# Altium footprint library 2309413_1.PcbLib: 1 footprints
Each footprint in its own frame and in the unit in brackets; x right, y up, seen from the top. Pads: shape width x height; smd on the part's side, far side on the other; paste and mask are expansions set on the pad; w line width, h text height; cw(c..) or ccw(c..) is an arc to the next point about the centre after c.
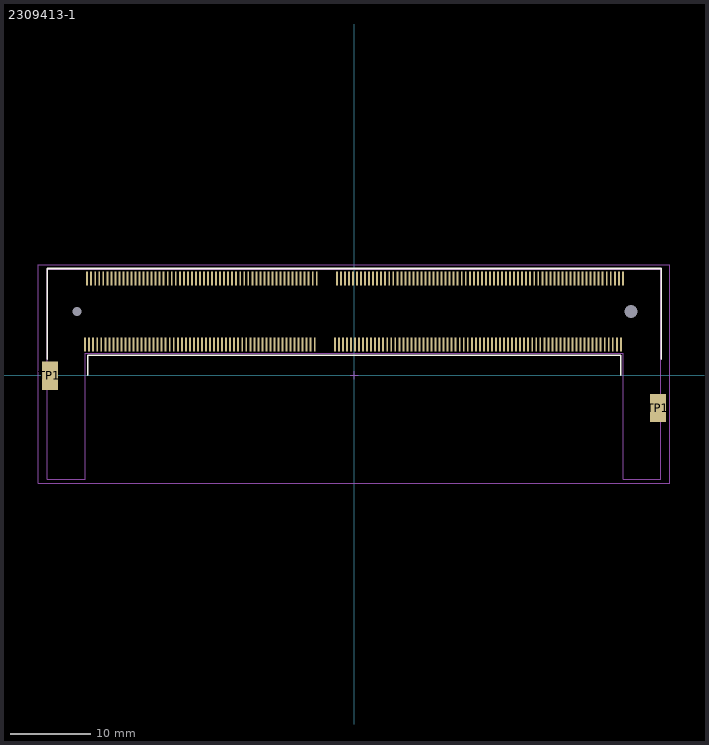
[diagram p0: the footprint, top view; thin cyan lines are the x and y axes]

## 2309413-1 [mm]
height 9.2
pads (264):
  rect 0.24x1.75 smd: 1(33.35,12.025) 2(33.1,3.825) 3(32.85,12.025) 4(32.6,3.825) 5(32.35,12.025) 6(32.1,3.825) 7(31.85,12.025) 8(31.6,3.825) 9(31.35,12.025) 10(31.1,3.825) 11(30.85,12.025) 12(30.6,3.825) 13(30.35,12.025) 14(30.1,3.825) 15(29.85,12.025) 16(29.6,3.825) 17(29.35,12.025) 18(29.1,3.825) 19(28.85,12.025) 20(28.6,3.825) 21(28.35,12.025) 22(28.1,3.825) 23(27.85,12.025) 24(27.6,3.825) 25(27.35,12.025) 26(27.1,3.825) 27(26.85,12.025) 28(26.6,3.825) 29(26.35,12.025) 30(26.1,3.825) 31(25.85,12.025) 32(25.6,3.825) 33(25.35,12.025) 34(25.1,3.825) 35(24.85,12.025) 36(24.6,3.825) 37(24.35,12.025) 38(24.1,3.825) 39(23.85,12.025) 40(23.6,3.825) 41(23.35,12.025) 42(23.1,3.825) 43(22.85,12.025) 44(22.6,3.825) 45(22.35,12.025) 46(22.1,3.825) 47(21.85,12.025) 48(21.6,3.825) 49(21.35,12.025) 50(21.1,3.825) 51(20.85,12.025) 52(20.6,3.825) 53(20.35,12.025) 54(20.1,3.825) 55(19.85,12.025) 56(19.6,3.825) 57(19.35,12.025) 58(19.1,3.825) 59(18.85,12.025) 60(18.6,3.825) 61(18.35,12.025) 62(18.1,3.825) 63(17.85,12.025) 64(17.6,3.825) 65(17.35,12.025) 66(17.1,3.825) 67(16.85,12.025) 68(16.6,3.825) 69(16.35,12.025) 70(16.1,3.825) 71(15.85,12.025) 72(15.6,3.825) 73(15.35,12.025) 74(15.1,3.825) 75(14.85,12.025) 76(14.6,3.825) 77(14.35,12.025) 78(14.1,3.825) 79(13.85,12.025) 80(13.6,3.825) 81(13.35,12.025) 82(13.1,3.825) 83(12.85,12.025) 84(12.6,3.825) 85(12.35,12.025) 86(12.1,3.825) 87(11.85,12.025) 88(11.6,3.825) 89(11.35,12.025) 90(11.1,3.825) 91(10.85,12.025) 92(10.6,3.825) 93(10.35,12.025) 94(10.1,3.825) 95(9.85,12.025) 96(9.6,3.825) 97(9.35,12.025) 98(9.1,3.825) 99(8.85,12.025) 100(8.6,3.825) 101(8.35,12.025) 102(8.1,3.825) 103(7.85,12.025) 104(7.6,3.825) 105(7.35,12.025) 106(7.1,3.825) 107(6.85,12.025) 108(6.6,3.825) 109(6.35,12.025) 110(6.1,3.825) 111(5.85,12.025) 112(5.6,3.825) 113(5.35,12.025) 114(5.1,3.825) 115(4.85,12.025) 116(4.6,3.825) 117(4.35,12.025) 118(4.1,3.825) 119(3.85,12.025) 120(3.6,3.825) 121(3.35,12.025) 122(3.1,3.825) 123(2.85,12.025) 124(2.6,3.825) 125(2.35,12.025) 126(2.1,3.825) 127(1.85,12.025) 128(1.6,3.825) 129(1.35,12.025) 130(1.1,3.825) 131(0.85,12.025) 132(0.6,3.825) 133(0.35,12.025) 134(0.1,3.825) 135(-0.15,12.025) 136(-0.4,3.825) 137(-0.65,12.025) 138(-0.9,3.825) 139(-1.15,12.025) 140(-1.4,3.825) 141(-1.65,12.025) 142(-1.9,3.825) 143(-2.15,12.025) 144(-2.4,3.825) 145(-4.65,12.025) 146(-4.9,3.825) 147(-5.15,12.025) 148(-5.4,3.825) 149(-5.65,12.025) 150(-5.9,3.825) 151(-6.15,12.025) 152(-6.4,3.825) 153(-6.65,12.025) 154(-6.9,3.825) 155(-7.15,12.025) 156(-7.4,3.825) 157(-7.65,12.025) 158(-7.9,3.825) 159(-8.15,12.025) 160(-8.4,3.825) 161(-8.65,12.025) 162(-8.9,3.825) 163(-9.15,12.025) 164(-9.4,3.825) 165(-9.65,12.025) 166(-9.9,3.825) 167(-10.15,12.025) 168(-10.4,3.825) 169(-10.65,12.025) 170(-10.9,3.825) 171(-11.15,12.025) 172(-11.4,3.825) 173(-11.65,12.025) 174(-11.9,3.825) 175(-12.15,12.025) 176(-12.4,3.825) 177(-12.65,12.025) 178(-12.9,3.825) 179(-13.15,12.025) 180(-13.4,3.825) 181(-13.65,12.025) 182(-13.9,3.825) 183(-14.15,12.025) 184(-14.4,3.825) 185(-14.65,12.025) 186(-14.9,3.825) 187(-15.15,12.025) 188(-15.4,3.825) 189(-15.65,12.025) 190(-15.9,3.825) 191(-16.15,12.025) 192(-16.4,3.825) 193(-16.65,12.025) 194(-16.9,3.825) 195(-17.15,12.025) 196(-17.4,3.825) 197(-17.65,12.025) 198(-17.9,3.825) 199(-18.15,12.025) 200(-18.4,3.825) 201(-18.65,12.025) 202(-18.9,3.825) 203(-19.15,12.025) 204(-19.4,3.825) 205(-19.65,12.025) 206(-19.9,3.825) 207(-20.15,12.025) 208(-20.4,3.825) 209(-20.65,12.025) 210(-20.9,3.825) 211(-21.15,12.025) 212(-21.4,3.825) 213(-21.65,12.025) 214(-21.9,3.825) 215(-22.15,12.025) 216(-22.4,3.825) 217(-22.65,12.025) 218(-22.9,3.825) 219(-23.15,12.025) 220(-23.4,3.825) 221(-23.65,12.025) 222(-23.9,3.825) 223(-24.15,12.025) 224(-24.4,3.825) 225(-24.65,12.025) 226(-24.9,3.825) 227(-25.15,12.025) 228(-25.4,3.825) 229(-25.65,12.025) 230(-25.9,3.825) 231(-26.15,12.025) 232(-26.4,3.825) 233(-26.65,12.025) 234(-26.9,3.825) 235(-27.15,12.025) 236(-27.4,3.825) 237(-27.65,12.025) 238(-27.9,3.825) 239(-28.15,12.025) 240(-28.4,3.825) 241(-28.65,12.025) 242(-28.9,3.825) 243(-29.15,12.025) 244(-29.4,3.825) 245(-29.65,12.025) 246(-29.9,3.825) 247(-30.15,12.025) 248(-30.4,3.825) 249(-30.65,12.025) 250(-30.9,3.825) 251(-31.15,12.025) 252(-31.4,3.825) 253(-31.65,12.025) 254(-31.9,3.825) 255(-32.15,12.025) 256(-32.4,3.825) 257(-32.65,12.025) 258(-32.9,3.825) 259(-33.15,12.025) 260(-33.4,3.825)
  rect 2x3.5 smd: TP1(-37.775,-0.075) TP1(37.725,-4.075)
  round 0 hole 1.1: ""(-34.425,7.925)
  round 0 hole 1.6: ""(34.375,7.925)
Top Overlay:
  lines w0.2: -38.1,2 -38.1,13.25 -3.125,13.25 38.1,13.25 38.1,2 ; -33.1,0 -33.1,2.5 33.1,2.5 33.1,0
Top Comment:
  text ".Comment" at -0.75,15.875 h1.2
Top Designator:
  text ".Designator" at -2.25,15.875 h1.2
Top Component Outline:
  lines w0.1: -38.075,-12.925 -38.075,13.125 -2.25,13.125 38.025,13.125 38.025,-12.925 33.4,-12.925 33.4,1.225 33.4,2.75 -32.5,2.75 -33.4,2.75 -33.4,-12.925 -38.075,-12.925
Top Courtyard (Mech15):
  lines w0.05: -39.2,-13.4 -39.2,-2.2 -39.2,13.625 -39.2,13.7 -39.125,13.7 -3,13.7 39.15,13.7 39.2,13.7 39.2,13.65 39.2,-13.4 38.5,-13.4 -39.2,-13.4
  lines w0.1: -0.5,0 0.5,0 ; 0,-0.5 0,0.5
3D body "c-2309413-1-1-3d.stp": height 9.23, standoff -0.42, extent -38.07,-12.925 38.029,12.925